# EAGLE library part VS1053B (library Custom)
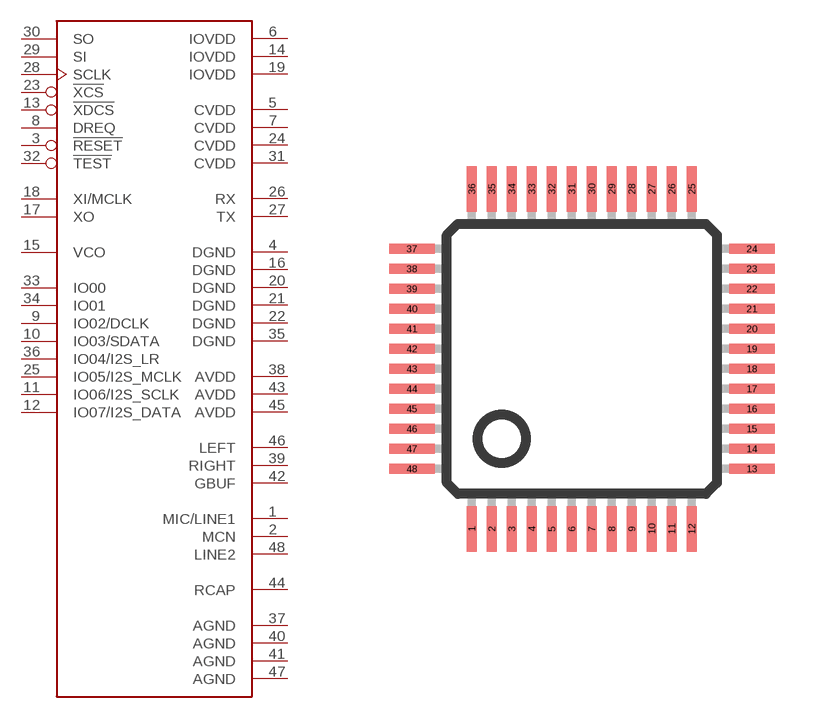
[diagram p9: symbol with the pads of LQFP-48; footprint LQFP-48]

Designator prefix -

## VS1053BLQFP-48  [LQFP-48]
1  MIC/LINE1  in
2  MCN
3  !RESET  in
4  DGND  pwr
5  CVDD  pwr
6  IOVDD  pwr
7  CVDD  pwr
8  DREQ
9  IO02/DCLK
10  IO03/SDATA
11  IO06/I2S_SCLK
12  IO07/I2S_DATA
13  !XDCS  in
14  IOVDD  pwr
15  VCO
16  DGND  pwr
17  XO
18  XI/MCLK
19  IOVDD  pwr
20  DGND  pwr
21  DGND  pwr
22  DGND  pwr
23  !XCS  in
24  CVDD  pwr
25  IO05/I2S_MCLK
26  RX  in
27  TX  out
28  SCLK
29  SI
30  SO
31  CVDD  pwr
32  !TEST  in
33  IO00
34  IO01
35  DGND  pwr
36  IO04/I2S_LR
37  AGND  pwr
38  AVDD  pwr
39  RIGHT  out
40  AGND  pwr
41  AGND  pwr
42  GBUF
43  AVDD  pwr
44  RCAP
45  AVDD  pwr
46  LEFT  out
47  AGND  pwr
48  LINE2  in

## Footprint LQFP-48 (pad centres in mm)
smd 0.254 x 1.143: 1 -2.75,-4.25; 2 -2.25,-4.25; 3 -1.75,-4.25; 4 -1.25,-4.25; 5 -0.75,-4.25; 6 -0.25,-4.25; 7 0.25,-4.25; 8 0.75,-4.25; 9 1.25,-4.25; 10 1.75,-4.25; 11 2.25,-4.25; 12 2.75,-4.25; 25 2.75,4.25; 26 2.25,4.25; 27 1.75,4.25; 28 1.25,4.25; 29 0.75,4.25; 30 0.25,4.25; 31 -0.25,4.25; 32 -0.75,4.25; 33 -1.25,4.25; 34 -1.75,4.25; 35 -2.25,4.25; 36 -2.75,4.25
smd 1.143 x 0.254: 13 4.25,-2.75; 14 4.25,-2.25; 15 4.25,-1.75; 16 4.25,-1.25; 17 4.25,-0.75; 18 4.25,-0.25; 19 4.25,0.25; 20 4.25,0.75; 21 4.25,1.25; 22 4.25,1.75; 23 4.25,2.25; 24 4.25,2.75; 37 -4.25,2.75; 38 -4.25,2.25; 39 -4.25,1.75; 40 -4.25,1.25; 41 -4.25,0.75; 42 -4.25,0.25; 43 -4.25,-0.25; 44 -4.25,-0.75; 45 -4.25,-1.25; 46 -4.25,-1.75; 47 -4.25,-2.25; 48 -4.25,-2.75